# EAGLE library part MQ-4 (library mq-x)
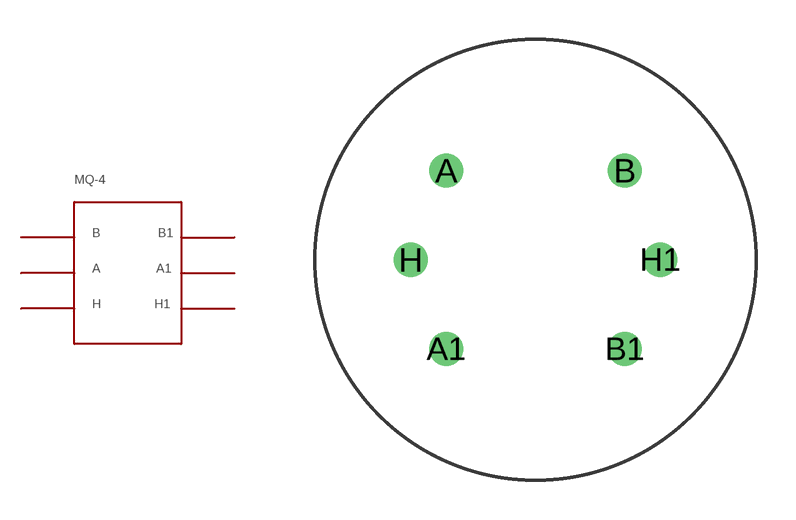
[diagram p0: symbol with the pads of MQ-4; footprint MQ-4]

Designator prefix -

## MQ-4  [MQ-4]
A  A
A1  A1
B  B
B1  B1
H  H
H1  H1

## Footprint MQ-4 (pad centres in mm)
MQ-4 GAS SENSOR https://www.sparkfun.com/products/9404 Re-packaged to account for slight dimensional discrepancy.
drill 0.8: A -3.4,3.4; A1 -3.4,-3.4; B 3.4,3.4; B1 3.4,-3.4; H -4.75,0; H1 4.75,0